# Altium footprint library CONN-SPE_MOLEX_39-28-1083.PcbLib: 1 footprints
Each footprint in its own frame and in the unit in brackets; x right, y up, seen from the top. Pads: shape width x height; smd on the part's side, far side on the other; paste and mask are expansions set on the pad; w line width, h text height; cw(c..) or ccw(c..) is an arc to the next point about the centre after c.
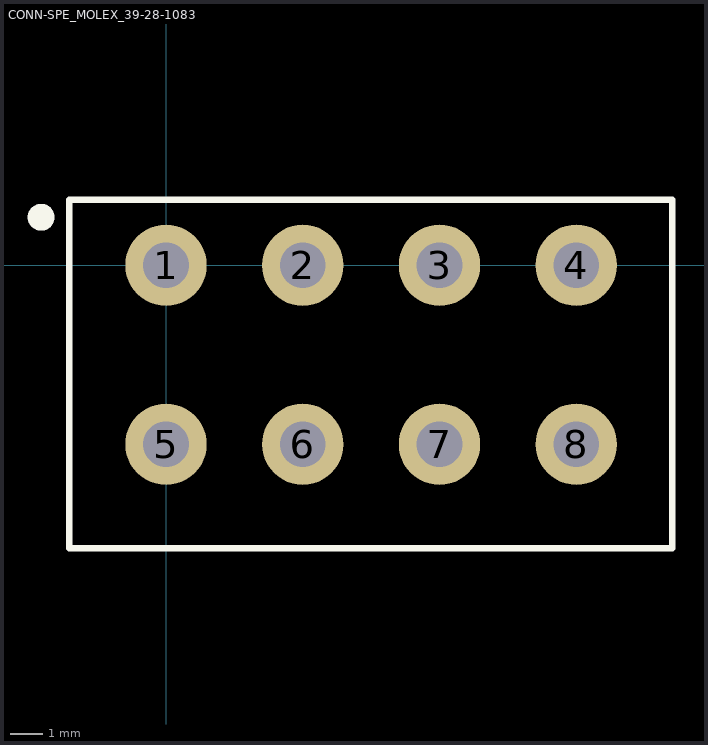
[diagram p0: the footprint, top view; thin cyan lines are the x and y axes]

## CONN-SPE_MOLEX_39-28-1083 [mm]
pads (8):
  round 2.5 hole 1.4: 1(0,0) 2(4.2,0) 3(8.4,0) 4(12.6,0) 5(0,-5.5) 6(4.2,-5.5) 7(8.4,-5.5) 8(12.6,-5.5)
Top Overlay:
  circle w0.5: c-3.835,1.473 r0.163
  lines w0.2: -2.972,-8.687 -2.972,2.007 15.545,2.007 15.545,-8.687 -2.972,-8.687
3D body: height 12.8, standoff -3.5, extent -3.101,-8.816 15.699,2.184